# EAGLE library part 658855603040 (library WR-BTB)
WR-BTB 0.80 mm Male Vertical SMT 5.60 Plug KIND PROPERTIES: Pitch 0.8 mm Quality Class 30 Mating cycles MATERIAL PROPERTIES: Insulator Material LCP Insulator Flammability Rating UL94 V-0 Insulator Color Ivory Contact Copper Alloy Contact Plating Selective Gold Contact Type Stamped GENERAL PROPERTIES: Operating Temperature -55 °C up to +85 °C Compliance Lead free / RoHS ELECTRICAL PROPERTIES: Rated Current [1] 0.5 A Working Voltage 50 V (AC) Withstanding Voltage 500 V (AC) Contact Resistance 50 mΩ Insulation Resistance 100 MΩ PACKAGING PROPERTIES: Packaging Tape and Reel with Cap <https://www.we-online.com/catalog/media/o97310v209%20Family_WR-BTB_658855603040.jpg> Details see: https://www.we-online.com/katalog/en/em/BTB_0_80_MALE_SMT_VERTICAL_PLUG_H5_60_658855603XXX Updated by Yingchun,Shan 2019-10-15 2019 (C) Würth Elektronik
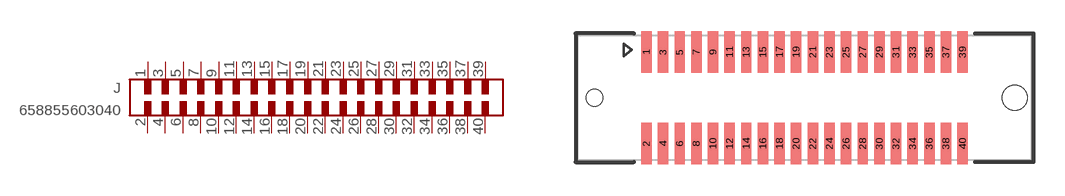
[diagram p14: symbol with the pads of 658855603040; footprint 658855603040]

Designator prefix J

## 658855603040 (DATASHEET-URL: https://www.we-online.com/catalog/datasheet/658855603040.pdf; GENDER: Male Plug; IR: 0.5A; PACKAGING: Tape and Reel with Cap; PART-NUMBER: 658855603040; PINS: 40; TYPE: Vertical; VALUE: 658855603040)  [658855603040]
1  1  pas
2  2  pas
3  3  pas
4  4  pas
5  5  pas
6  6  pas
7  7  pas
8  8  pas
9  9  pas
10  10  pas
11  11  pas
12  12  pas
13  13  pas
14  14  pas
15  15  pas
16  16  pas
17  17  pas
18  18  pas
19  19  pas
20  20  pas
21  21  pas
22  22  pas
23  23  pas
24  24  pas
25  25  pas
26  26  pas
27  27  pas
28  28  pas
29  29  pas
30  30  pas
31  31  pas
32  32  pas
33  33  pas
34  34  pas
35  35  pas
36  36  pas
37  37  pas
38  38  pas
39  39  pas
40  40  pas

## Footprint 658855603040 (pad centres in mm)
Con-BTB 0.80 mm Male Vertical SMT 5.60 Plug 40 Pins
smd 0.5 x 2: 1 -7.6,2.2; 2 -7.6,-2.2; 3 -6.8,2.2; 4 -6.8,-2.2; 5 -6,2.2; 6 -6,-2.2; 7 -5.2,2.2; 8 -5.2,-2.2; 9 -4.4,2.2; 10 -4.4,-2.2; 11 -3.6,2.2; 12 -3.6,-2.2; 13 -2.8,2.2; 14 -2.8,-2.2; 15 -2,2.2; 16 -2,-2.2; 17 -1.2,2.2; 18 -1.2,-2.2; 19 -0.4,2.2; 20 -0.4,-2.2; 21 0.4,2.2; 22 0.4,-2.2; 23 1.2,2.2; 24 1.2,-2.2; 25 2,2.2; 26 2,-2.2; 27 2.8,2.2; 28 2.8,-2.2; 29 3.6,2.2; 30 3.6,-2.2; 31 4.4,2.2; 32 4.4,-2.2; 33 5.2,2.2; 34 5.2,-2.2; 35 6,2.2; 36 6,-2.2; 37 6.8,2.2; 38 6.8,-2.2; 39 7.6,2.2; 40 7.6,-2.2
hole 0.8 at -10.1,0
hole 1.2 at 10.1,0